# EAGLE library part LP2954AIMX/NOPB (library circuit_tree)
IC
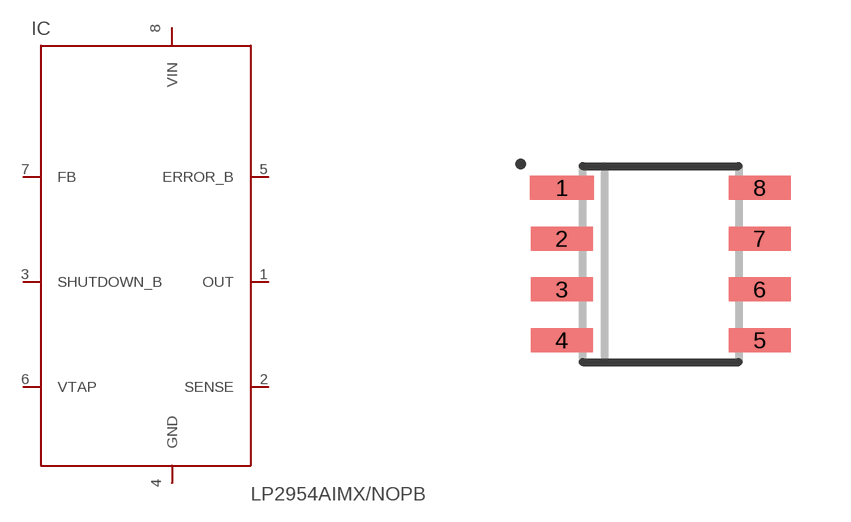
[diagram p0: symbol with the pads of LP2954; footprint LP2954]

Designator prefix IC

## LP2954AIMX/NOPB  [LP2954]
1  OUT  pas
2  SENSE  pas
3  SHUTDOWN_B  pas
4  GND  pas
5  ERROR_B  pas
6  VTAP  pas
7  FB  pas
8  VIN  pas

## Footprint LP2954 (pad centres in mm)
smd 1.6 x 0.6: 1 -2.475,1.905
smd 1.55 x 0.6: 2 -2.475,0.635; 3 -2.475,-0.635; 4 -2.475,-1.905; 5 2.475,-1.905; 6 2.475,-0.635; 7 2.475,0.635; 8 2.475,1.905